# EAGLE library part FDS4465 (library Fairchild)
P-Channel 1.8V Specified PowerTrench® MOSFET -13.5 A, -20 V RDS(ON) = 8.5 mΩ @ VGS = -4.5 V RDS(ON) = 10.5 mΩ @ VGS = -2.5 V RDS(ON) = 14 mΩ @ VGS = -1.8 V Fast switching speed High performance trench technology for extremely low RDS(ON) High current and power handling capability Source: http://www.fairchildsemi.com/ds/FD/FDS4465.pdf, Rev C1 (W)
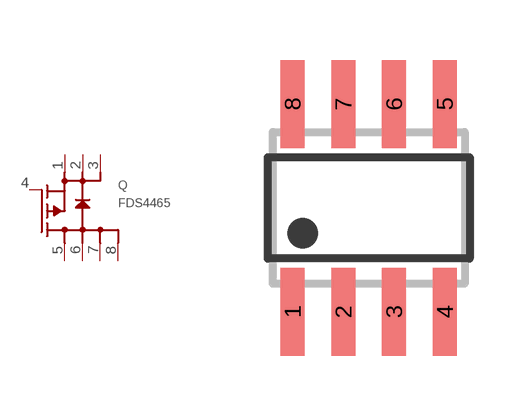
[diagram p0: symbol with the pads of SO-08; footprint SO-08]

Designator prefix Q

## FDS4465  [SO-08]
1  S1
2  S2
3  S3
4  G
5  D1
6  D2
7  D3
8  D4

## Footprint SO-08 (pad centres in mm)
Small Outline Integrated Circuit
smd 0.6 x 2.2: 1 -1.905,-2.6; 2 -0.635,-2.6; 3 0.635,-2.6; 4 1.905,-2.6; 5 1.905,2.6; 6 0.635,2.6; 7 -0.635,2.6; 8 -1.905,2.6